# EAGLE library part ARDUINO_R3_SHIELD (library miller)
Shield form compatible with the Arduino Uno R3.
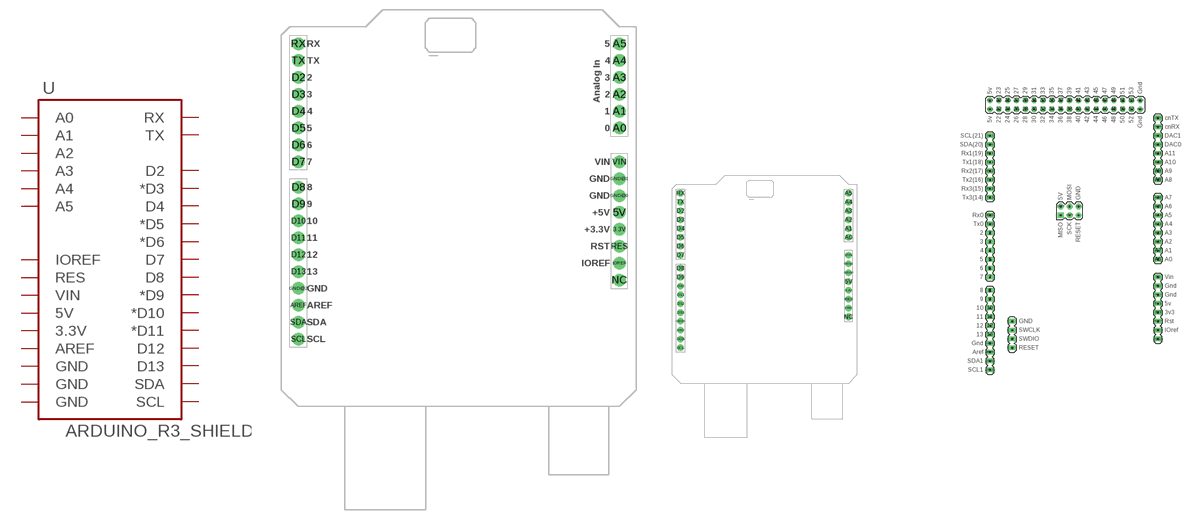
[diagram p18: symbol with the pads of UNO_R3_SHIELD; footprints UNO_R3_SHIELD, UNO_R3_SHIELD_NOLABELS]

Designator prefix -

## ARDUINO_R3_SHIELD  [UNO_R3_SHIELD]
3.3V  3.3V
5V  5V
A0  A0
A1  A1
A2  A2
A3  A3
A4  A4
A5  A5
AREF  AREF
D2  D2
D3  *D3
D4  D4
D5  *D5
D6  *D6
D7  D7
D8  D8
D9  *D9
D10  *D10
D11  *D11
D12  D12
D13  D13
GND@0  GND
GND@1  GND
GND@2  GND
IOREF  IOREF
RES  RES
RX  RX
SCL  SCL
SDA  SDA
TX  TX
VIN  VIN

## ARDUINO_R3_SHIELDNOLABELS  [UNO_R3_SHIELD_NOLABELS]
Pads as for UNO_R3_SHIELD

## Footprint UNO_R3_SHIELD (pad centres in mm)
Uno R3 Compatible Board Layout
drill 1.016 pad 1.88: 3.3V 50.8,26.67; 5V 50.8,29.21; A0 50.8,41.91; A1 50.8,44.45; A2 50.8,46.99; A3 50.8,49.53; A4 50.8,52.07; A5 50.8,54.61; AREF 2.54,15.24; D2 2.54,49.53; D3 2.54,46.99; D4 2.54,44.45; D5 2.54,41.91; D6 2.54,39.37; D7 2.54,36.83; D8 2.54,33.02; D9 2.54,30.48; D10 2.54,27.94; D11 2.54,25.4; D12 2.54,22.86; D13 2.54,20.32; GND@0 50.8,31.75; GND@1 50.8,34.29; GND@2 2.54,17.78; IOREF 50.8,21.59; NC 50.8,19.05; RES 50.8,24.13; RX 2.54,54.61; SCL 2.54,10.16; SDA 2.54,12.7; TX 2.54,52.07; VIN 50.8,36.83

## Footprint UNO_R3_SHIELD_NOLABELS (pad centres in mm)
drill 1 long: 2 91.44,43.18; 3 91.44,40.64; 3V3 139.7,20.32; 4 91.44,38.1; 5 91.44,35.56; 5V1 139.7,22.86; 6 91.44,33.02; 7 91.44,30.48; 8 91.44,26.67; 9 91.44,24.13; 10 91.44,21.59; 11 91.44,19.05; 12 91.44,16.51; 13 91.44,13.97; A6 139.7,35.56; A7 139.7,38.1; A8 139.7,58.42; A9 139.7,60.96; A10 139.7,63.5; A11 139.7,66.04; A12 139.7,43.18; A13 139.7,45.72; A14 139.7,48.26; A15 139.7,50.8; A16 139.7,53.34; A17 139.7,40.64; AREF1 91.44,8.89; AREF2 91.44,8.89; CANRX 139.7,73.66; CANTX 139.7,76.2; DAC0 139.7,68.58; DAC1 139.7,71.12; GND1 91.44,11.43; GND_1 139.7,25.4; GND_2 139.7,27.94; RESET 139.7,17.78; RX0 91.44,48.26; RX1 91.44,66.04; RX2 91.44,60.96; RX3 91.44,55.88; SCL1 91.44,71.12; SDA1 91.44,68.58; TX0 91.44,45.72; TX1 91.44,63.5; TX2 91.44,58.42; TX3 91.44,53.34; VIN1 139.7,30.48
drill 1.016 pad 1.88: 3.3V 50.8,26.67; 5V 50.8,29.21; A0 50.8,41.91; A1 50.8,44.45; A2 50.8,46.99; A3 50.8,49.53; A4 50.8,52.07; A5 50.8,54.61; AREF 2.54,15.24; D2 2.54,49.53; D3 2.54,46.99; D4 2.54,44.45; D5 2.54,41.91; D6 2.54,39.37; D7 2.54,36.83; D8 2.54,33.02; D9 2.54,30.48; D10 2.54,27.94; D11 2.54,25.4; D12 2.54,22.86; D13 2.54,20.32; GND@0 50.8,31.75; GND@1 50.8,34.29; GND@2 2.54,17.78; IOREF 50.8,21.59; NC 50.8,19.05; RES 50.8,24.13; RX 2.54,54.61; SCL 2.54,10.16; SDA 2.54,12.7; TX 2.54,52.07; VIN 50.8,36.83
drill 1: 5V_A 91.44,78.74; 5V_B 91.44,81.28; 22 93.98,78.74; 23 93.98,81.28; 24 96.52,78.74; 25 96.52,81.28; 26 99.06,78.74; 27 99.06,81.28; 28 101.6,78.74; 29 101.6,81.28; 30 104.14,78.74; 31 104.14,81.28; 32 106.68,78.74; 33 106.68,81.28; 34 109.22,78.74; 35 109.22,81.28; 36 111.76,78.74; 37 111.76,81.28; 38 114.3,78.74; 39 114.3,81.28; 40 116.84,78.74; 41 116.84,81.28; 42 119.38,78.74; 43 119.38,81.28; 44 121.92,78.74; 45 121.92,81.28; 46 124.46,78.74; 47 124.46,81.28; 48 127,78.74; 49 127,81.28; 50 129.54,78.74; 51 129.54,81.28; 52 132.08,78.74; 53 132.08,81.28; GND_A 134.62,78.74; GND_B 134.62,81.28
drill 0.7 pad 1.676: 5V_ICSP 116.84,50.8; GND_ICSP 111.76,50.8; MOSI_ICSP 114.3,50.8; RESET_ICSP 116.84,48.26; SCK_ICSP 114.3,48.26
drill 0.8 pad 1.422 long: GND_DEBUG 97.79,17.78; IOREF1 139.7,15.24; NC1 139.7,12.7; RESET_DEBUG 97.79,10.16; SCL2 91.44,3.81; SDA2 91.44,6.35; SWCLK_DEBUG 97.79,15.24; SWDIO_DEBUG 97.79,12.7
drill 0.7 pad 1.676 square: MISO_ICSP 111.76,48.26